# EAGLE library part 8B_SHIFT_REG (library TuansLib)
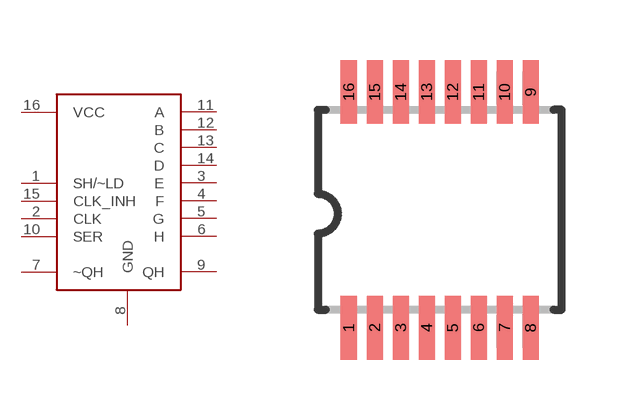
[diagram p1: symbol with the pads of TSSOP16; footprint TSSOP16]

Designator prefix -

## 8B_SHIFT_REG  [TSSOP16]
1  SH/~LD
2  CLK
3  E
4  F
5  G
6  H
7  ~QH
8  GND
9  QH
10  SER
11  A
12  B
13  C
14  D
15  CLK_INH
16  VCC

## Footprint TSSOP16 (pad centres in mm)
TSOP16 thin small outline package
smd 0.4 x 1.6: 1 -2.225,-2.85; 2 -1.575,-2.85; 3 -0.925,-2.85; 4 -0.275,-2.85; 5 0.375,-2.85; 6 1.025,-2.85; 7 1.675,-2.85; 8 2.325,-2.85; 9 2.325,3.05; 10 1.675,3.05; 11 1.025,3.05; 12 0.375,3.05; 13 -0.275,3.05; 14 -0.925,3.05; 15 -1.575,3.05; 16 -2.225,3.05